# Altium footprint library SM_DGK8-M.PcbLib: 1 footprints
Each footprint in its own frame and in the unit in brackets; x right, y up, seen from the top. Pads: shape width x height; smd on the part's side, far side on the other; paste and mask are expansions set on the pad; w line width, h text height; cw(c..) or ccw(c..) is an arc to the next point about the centre after c.
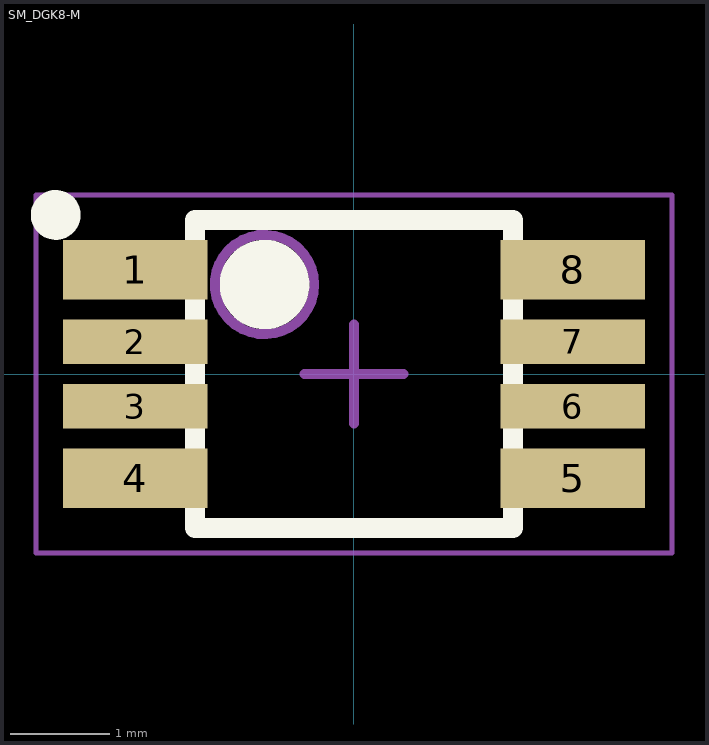
[diagram p0: the footprint, top view; thin cyan lines are the x and y axes]

## SM_DGK8-M [mm]
pads (8):
  rect 1.45x0.6 smd mask+0.05: 1(-2.2,1.05) 4(-2.2,-1.05) 5(2.2,-1.05) 8(2.2,1.05)
  rect 1.45x0.45 smd mask+0.05: 2(-2.2,0.325) 3(-2.2,-0.325) 6(2.2,-0.325) 7(2.2,0.325)
Top Overlay:
  circle w0.25: c-3,1.6 r0.125
  circle w0.6: c-0.9,0.9 r0.15
  lines w0.2: -1.6,-1.55 -1.6,1.55 1.6,1.55 1.6,-1.55 -1.6,-1.55
Mechanical 13:
  circle w0.1: c-0.9,0.9 r0.5
  lines w0.1: -1.55,-1.55 -1.55,1.55 1.55,1.55 1.55,-1.55 -1.55,-1.55
Mechanical 15:
  lines w0.05: -3.2,-1.8 -3.2,1.8 3.2,1.8 3.2,-1.8 -3.2,-1.8
  lines w0.1: -0.5,0 0.5,0 ; 0,-0.5 0,0.5
3D body: height 1.1, standoff 0.05, extent -1.55,-1.55 1.55,1.55